# EAGLE library part WISP5.1-BREAKOUT (library wisp5.1-breakout)
WISP 5.1 breakout. Sits on top of the WISP 5.1 LRG PCB and breaks out all the pins.
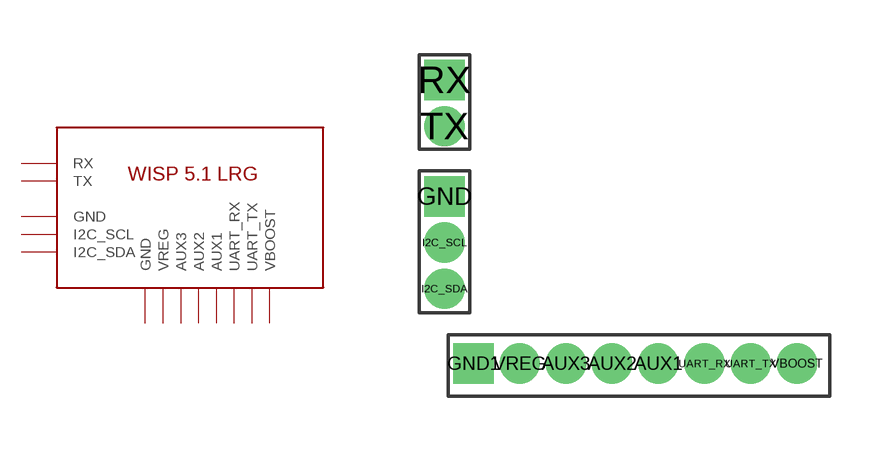
[diagram p0: symbol with the pads of WISP5.1; footprint WISP5.1]

Designator prefix -

## WISP5.1-BREAKOUT  [WISP5.1]
AUX1  AUX1
AUX2  AUX2
AUX3  AUX3
GND  GND
GND1  GND
I2C_SCL  I2C_SCL
I2C_SDA  I2C_SDA
RX  RX
TX  TX
UART_RX  UART_RX
UART_TX  UART_TX
VBOOST  VBOOST
VREG  VREG

## Footprint WISP5.1 (pad centres in mm)
drill 0.6 pad 1: AUX1 5.08,0; AUX2 3.81,0; AUX3 2.54,0; I2C_SCL -0.8,3.33; I2C_SDA -0.8,2.06; TX -0.8,6.53; UART_RX 6.35,0; UART_TX 7.62,0; VBOOST 8.89,0; VREG 1.27,0
drill 0.6 pad 1 square: GND -0.8,4.6; GND1 0,0; RX -0.8,7.8